# Altium footprint library EISI.PcbLib: 695 footprints (part 6 of 44)
Each footprint in its own frame and in the unit in brackets; x right, y up, seen from the top. Pads: shape width x height; smd on the part's side, far side on the other; paste and mask are expansions set on the pad; w line width, h text height; cw(c..) or ccw(c..) is an arc to the next point about the centre after c.
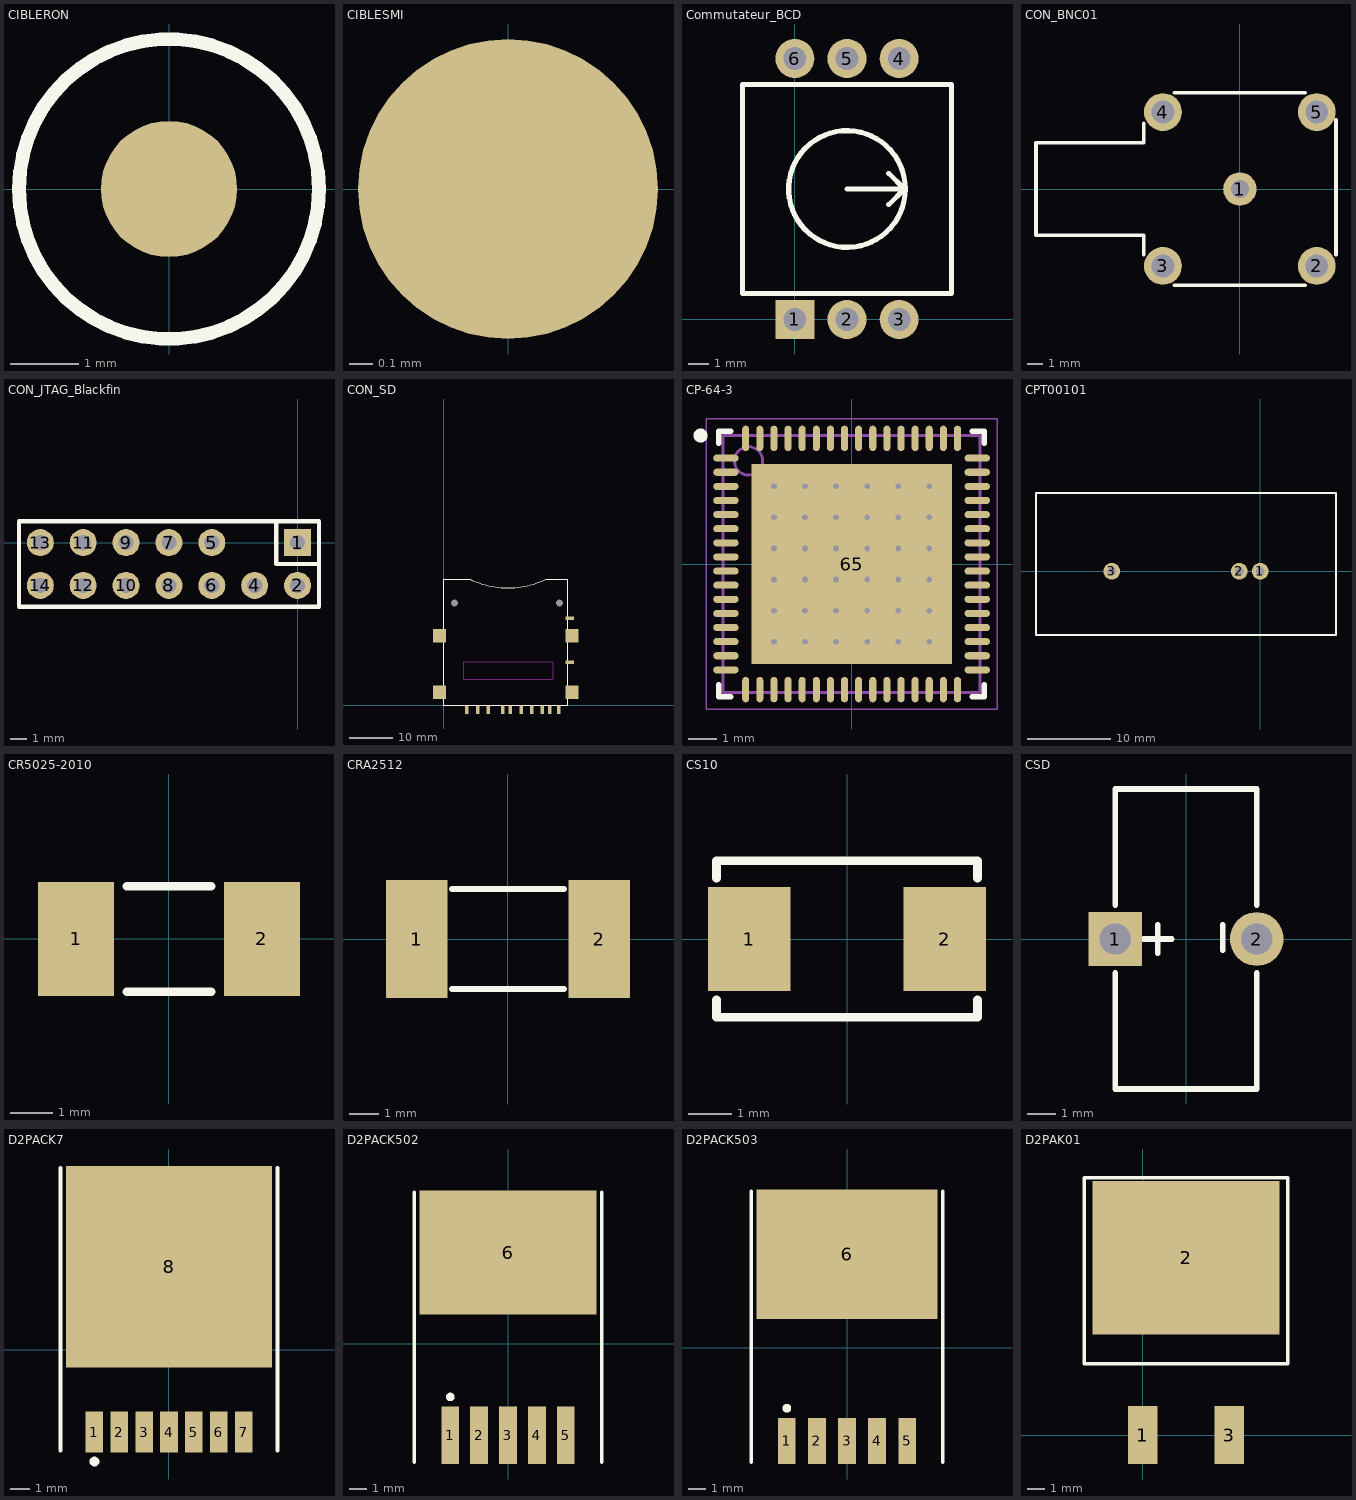
[diagram p5: the footprints below, top view; thin cyan lines are the x and y axes]

## CIBLERON [mm]
pads (1):
  round 2 smd mask+1: ""(0,0)
TopOverlay:
  circle w0.2: c0,0 r2.2

## CIBLESMI [mm]
pads (1):
  round 1.27 smd: ""(0,0)

## Commutateur_BCD [mm] "Commutateur BCD type ELMA 07-3133"
pads (6):
  rect 1.9x1.9 hole 1.1: 1(0,0)
  round 1.9 hole 1.1: 2(2.54,0) 3(5.08,0) 4(5.08,12.7) 5(2.54,12.7) 6(0,12.7)
TopOverlay:
  circle w0.254: c2.54,6.35 r2.84
  lines w0.25: 2.54,6.35 5.38,6.35 ; 4.572,5.588 5.334,6.35 ; 4.572,7.112 5.334,6.35 ; 5.08,6.35 5.38,6.35 ; 5.334,6.35 5.38,6.35 ; -2.54,1.27 0,1.27 7.62,1.27 7.62,11.43 -2.54,11.43 -2.54,1.27

## CON_BNC01 [mm] "Connecteur BNC print femelle coudé"
pads (5):
  round 2.2 hole 1.2: 1(0,0)
  round 2.5 hole 1.5: 2(5.08,-5.08) 3(-5.08,-5.08) 4(-5.08,5.08) 5(5.08,5.08)
TopOverlay:
  lines w0.25: -6.35,-4.318 -6.35,-3.048 -13.462,-3.048 -13.462,3.048 -6.35,3.048 -6.35,4.318 ; -4.318,-6.35 4.318,-6.35 ; -4.318,6.35 4.318,6.35 ; 6.35,-4.318 6.35,4.572

## CON_JTAG_Blackfin [mm] "Connecteur header 2x7 sans pin 3 pour Blackfin"
pads (13):
  rect 1.6x1.6 hole 0.9: 1(0,0)
  round 1.6 hole 0.9: 2(0,-2.54) 4(-2.54,-2.54) 5(-5.08,0) 6(-5.08,-2.54) 7(-7.62,0) 8(-7.62,-2.54) 9(-10.16,0) 10(-10.16,-2.54) 11(-12.7,0) 12(-12.7,-2.54) 13(-15.24,0) 14(-15.24,-2.54)
TopOverlay:
  lines w0.254: -16.5,1.25 -16.5,-3.81 1.27,-3.81 1.27,1.27 -16.5,1.27 ; -1.27,1.27 -1.27,-1.27 1.27,-1.27

## CON_SD [mm]
pads (18):
  rect 0.8x2 smd: 1(7.77,-1) 2(10.27,-1) 3(13.57,-1) 4(15.27,-1) 5(17.77,-1) 6(20.27,-1) 7(22.7,-1) 8(24.4,-1) 9(5.27,-1) 10(26.4,-1)
  rect 2x0.8 smd: 11(29,9.95) 12(29,20)
  rect 3x3 smd: ""(-1,3) ""(-1,16) ""(29.5,3) ""(29.5,16)
  rect 0x0 hole 1.6: ""(2.45,23.5) ""(26.65,23.5)
TopOverlay:
  lines w0.254: 6,29 0,29 0,0 28.5,0 28.5,29 23.5,29 ; 6.035,29.004 ccw(c14.772,46.995) 23.5,29
KeepOutLayer:
  lines w0.254: 4.65,6 25.15,6 25.15,10 4.65,10 4.65,6

## CP-64-3 [mm] "QFN, 64-Leads, Body 9x9mm, Pitch 0.5mm, Thermal Pad 7.1x7.1mm, IPC Medium Density"
height 1
pads (65):
  oval 0.9x0.25 smd: 1(-4.45,3.75) 2(-4.45,3.25) 3(-4.45,2.75) 4(-4.45,2.25) 5(-4.45,1.75) 6(-4.45,1.25) 7(-4.45,0.75) 8(-4.45,0.25) 9(-4.45,-0.25) 10(-4.45,-0.75) 11(-4.45,-1.25) 12(-4.45,-1.75) 13(-4.45,-2.25) 14(-4.45,-2.75) 15(-4.45,-3.25) 16(-4.45,-3.75) 33(4.45,-3.75) 34(4.45,-3.25) 35(4.45,-2.75) 36(4.45,-2.25) 37(4.45,-1.75) 38(4.45,-1.25) 39(4.45,-0.75) 40(4.45,-0.25) 41(4.45,0.25) 42(4.45,0.75) 43(4.45,1.25) 44(4.45,1.75) 45(4.45,2.25) 46(4.45,2.75) 47(4.45,3.25) 48(4.45,3.75)
  oval 0.25x0.9 smd: 17(-3.75,-4.45) 18(-3.25,-4.45) 19(-2.75,-4.45) 20(-2.25,-4.45) 21(-1.75,-4.45) 22(-1.25,-4.45) 23(-0.75,-4.45) 24(-0.25,-4.45) 25(0.25,-4.45) 26(0.75,-4.45) 27(1.25,-4.45) 28(1.75,-4.45) 29(2.25,-4.45) 30(2.75,-4.45) 31(3.25,-4.45) 32(3.75,-4.45) 49(3.75,4.45) 50(3.25,4.45) 51(2.75,4.45) 52(2.25,4.45) 53(1.75,4.45) 54(1.25,4.45) 55(0.75,4.45) 56(0.25,4.45) 57(-0.25,4.45) 58(-0.75,4.45) 59(-1.25,4.45) 60(-1.75,4.45) 61(-2.25,4.45) 62(-2.75,4.45) 63(-3.25,4.45) 64(-3.75,4.45)
  rect 7.1x7.1 smd: 65(0,0)
via -2.75,2.75 diameter 0.5 hole 0.2
via -1.65,2.75 diameter 0.5 hole 0.2
via -0.55,2.75 diameter 0.5 hole 0.2
via 0.55,2.75 diameter 0.5 hole 0.2
via 1.65,2.75 diameter 0.5 hole 0.2
via 2.75,2.75 diameter 0.5 hole 0.2
via -2.75,1.65 diameter 0.5 hole 0.2
via -1.65,1.65 diameter 0.5 hole 0.2
via -0.55,1.65 diameter 0.5 hole 0.2
via 0.55,1.65 diameter 0.5 hole 0.2
via 1.65,1.65 diameter 0.5 hole 0.2
via 2.75,1.65 diameter 0.5 hole 0.2
via -2.75,0.55 diameter 0.5 hole 0.2
via -1.65,0.55 diameter 0.5 hole 0.2
via -0.55,0.55 diameter 0.5 hole 0.2
via 0.55,0.55 diameter 0.5 hole 0.2
via 1.65,0.55 diameter 0.5 hole 0.2
via 2.75,0.55 diameter 0.5 hole 0.2
via -2.75,-0.55 diameter 0.5 hole 0.2
via -1.65,-0.55 diameter 0.5 hole 0.2
via -0.55,-0.55 diameter 0.5 hole 0.2
via 0.55,-0.55 diameter 0.5 hole 0.2
via 1.65,-0.55 diameter 0.5 hole 0.2
via 2.75,-0.55 diameter 0.5 hole 0.2
via -2.75,-1.65 diameter 0.5 hole 0.2
via -1.65,-1.65 diameter 0.5 hole 0.2
via -0.55,-1.65 diameter 0.5 hole 0.2
via 0.55,-1.65 diameter 0.5 hole 0.2
via 1.65,-1.65 diameter 0.5 hole 0.2
via 2.75,-1.65 diameter 0.5 hole 0.2
via -2.75,-2.75 diameter 0.5 hole 0.2
via -1.65,-2.75 diameter 0.5 hole 0.2
via -0.55,-2.75 diameter 0.5 hole 0.2
via 0.55,-2.75 diameter 0.5 hole 0.2
via 1.65,-2.75 diameter 0.5 hole 0.2
via 2.75,-2.75 diameter 0.5 hole 0.2
TopOverlay:
  circle w0.25: c-5.35,4.55 r0.125
  lines w0.2: -4.7,-4.275 -4.7,-4.7 -4.275,-4.7 ; -4.7,4.275 -4.7,4.7 -4.275,4.7 ; 4.275,-4.7 4.7,-4.7 4.7,-4.275 ; 4.275,4.7 4.7,4.7 4.7,4.275
Mechanical13:
  circle w0.1: c-3.65,3.65 r0.5
  lines w0.1: -4.55,-4.55 -4.55,4.55 4.55,4.55 4.55,-4.55 -4.55,-4.55
Mechanical15:
  lines w0.05: -5.15,-5.15 -5.15,5.15 5.15,5.15 5.15,-5.15 -5.15,-5.15
  lines w0.1: -0.5,0 0.5,0 ; 0,-0.5 0,0.5
3D body: height 1, standoff 0, extent -4.55,-4.55 4.55,4.55

## CPT00101 [mil]
pads (3):
  round 80 hole 40: 1(0.79,0) 2(-97.64,0) 3(-700,0)
TopOverlay:
  lines w10: -1058.27,-300.59 -1058.27,369.33 359.06,369.33 359.06,-300.59 -1058.27,-300.59

## CR5025-2010 [mm] "Chip Resistor; Body 5 x 2.5 mm (LxW typ)"
height 0.71
pads (2):
  rect 1.8x2.7 smd: 1(-2.2,0) 2(2.2,0)
TopOverlay:
  lines w0.2: -1,-1.25 1,-1.25 ; -1,1.25 1,1.25

## CRA2512 [mm] "Bourns Current Sense Resistor"
height 0.7
pads (2):
  rect 2.1x4 smd: 1(-3.1,0) 2(3.1,0)
TopOverlay:
  lines w0.2: -1.9,-1.7 1.9,-1.7 ; -1.9,1.7 1.9,1.7

## CS10 [mm] "Citizen CS10 quartz 6 x 3.5mm"
height 1
pads (2):
  rect 1.9x2.4 smd: 1(-2.25,0) 2(2.25,0)
TopOverlay:
  lines w0.2: -3,-1.4 -3,-1.8 3,-1.8 3,-1.4 ; -3,1.4 -3,1.8 3,1.8 3,1.4

## CSD [mm] "Super Cap SD"
height 11.5
pads (2):
  rect 1.9x1.9 hole 1.1: 1(-2.5,0)
  round 1.9 hole 1.1: 2(2.5,0)
TopOverlay:
  lines w0.2: -2.5,-1.2 -2.5,-5.3 2.5,-5.3 2.5,-1.2 ; -2.5,1.2 -2.5,5.3 2.5,5.3 2.5,1.2 ; -1.5,0 -0.5,0 ; -1,-0.5 -1,0.5 ; 1.3,-0.4 1.3,0.5

## D2PACK7 [mm]
pads (8):
  rect 0.9x2.1 smd: 1(-3.8,-4.223) 2(-2.53,-4.223) 3(-1.26,-4.223) 4(0.01,-4.223) 5(1.28,-4.223) 6(2.55,-4.223) 7(3.82,-4.223)
  rect 10.5x10.3 smd: 8(0.01,4.227)
TopOverlay:
  circle w0.25: c-3.8,-5.723 r0.125
  lines w0.2: -5.54,-5.173 -5.54,9.277 ; 5.56,-5.173 5.56,9.277

## D2PACK502 [mm] "D2-PAK; 5 Leads; Body 15.4 (inc. leads) x 10.4 mm (LxW max)"
height 4.65
pads (6):
  rect 1.05x3.4 smd: 1(-3.4,-5.375) 2(-1.7,-5.375) 3(0,-5.375) 4(1.7,-5.375) 5(3.4,-5.375)
  rect 10.45x7.3 smd: 6(0,5.375)
TopOverlay:
  circle w0.25: c-3.4,-3.125 r0.125
  lines w0.2: -5.525,-6.975 -5.525,8.925 ; 5.525,-6.975 5.525,8.925

## D2PACK503 [mm] "D2-PAK; 5 Leads; Body 14.7 (inc. leads) x 10.2 mm (LxW max)"
height 4.58
pads (6):
  rect 1x2.6 smd: 1(-3.4,-5.275) 2(-1.7,-5.275) 3(0,-5.275) 4(1.7,-5.275) 5(3.4,-5.275)
  rect 10.2x7.3 smd: 6(0,5.275)
TopOverlay:
  circle w0.25: c-3.4,-3.425 r0.125
  lines w0.2: -5.4,-6.475 -5.4,8.825 ; 5.4,-6.475 5.4,8.825

## D2PAK01 [mm]
pads (3):
  rect 1.74x3.4 smd: 1(0,0) 3(5.08,0)
  rect 11x9 smd: 2(2.54,10.414)
TopOverlay:
  lines w0.2: -3.429,4.191 -3.429,15.113 8.509,15.113 8.509,4.191 -3.429,4.191